# EAGLE library part HX711 (library HX711)
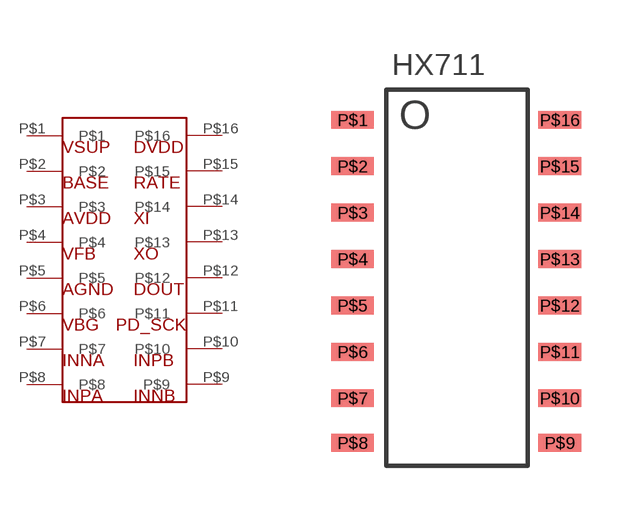
[diagram p0: symbol with the pads of HX711; footprint HX711]

Designator prefix HX711

## HX711  [HX711]
P$1  P$1
P$2  P$2
P$3  P$3
P$4  P$4
P$5  P$5
P$6  P$6
P$7  P$7
P$8  P$8
P$9  P$9
P$10  P$10
P$11  P$11
P$12  P$12
P$13  P$13
P$14  P$14
P$15  P$15
P$16  P$16

## Footprint HX711 (pad centres in mm)
smd 1.2 x 0.5: P$1 0.6,9.25; P$2 0.6,7.95; P$3 0.6,6.65; P$4 0.6,5.35; P$5 0.6,4.05; P$6 0.6,2.75; P$7 0.6,1.45; P$8 0.6,0.2; P$9 6.4,0.2; P$10 6.4,1.45; P$11 6.4,2.75; P$12 6.4,4.05; P$13 6.4,5.35; P$14 6.4,6.65; P$15 6.4,7.95; P$16 6.4,9.25